# Altium footprint library MF-SM150_33-2.PcbLib: 1 footprints
Each footprint in its own frame and in the unit in brackets; x right, y up, seen from the top. Pads: shape width x height; smd on the part's side, far side on the other; paste and mask are expansions set on the pad; w line width, h text height; cw(c..) or ccw(c..) is an arc to the next point about the centre after c.
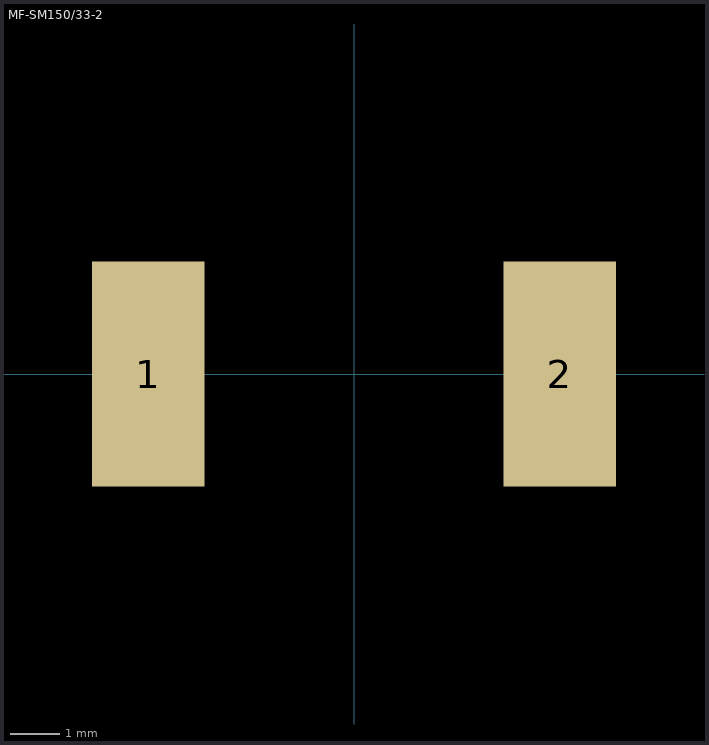
[diagram p0: the footprint, top view; thin cyan lines are the x and y axes]

## MF-SM150/33-2 [mm]
pads (2):
  rect 2.3x4.6 smd: 1(-4.2,0) 2(4.2,0)
3D body "mf-sm150_33.stp": height 2.64, standoff -0.36, extent -4.375,-3.355 4.375,3.355